# Altium footprint library Supernova Capacitors.PcbLib: 22 footprints (part 1 of 2)
Each footprint in its own frame and in the unit in brackets; x right, y up, seen from the top. Pads: shape width x height; smd on the part's side, far side on the other; paste and mask are expansions set on the pad; w line width, h text height; cw(c..) or ccw(c..) is an arc to the next point about the centre after c.
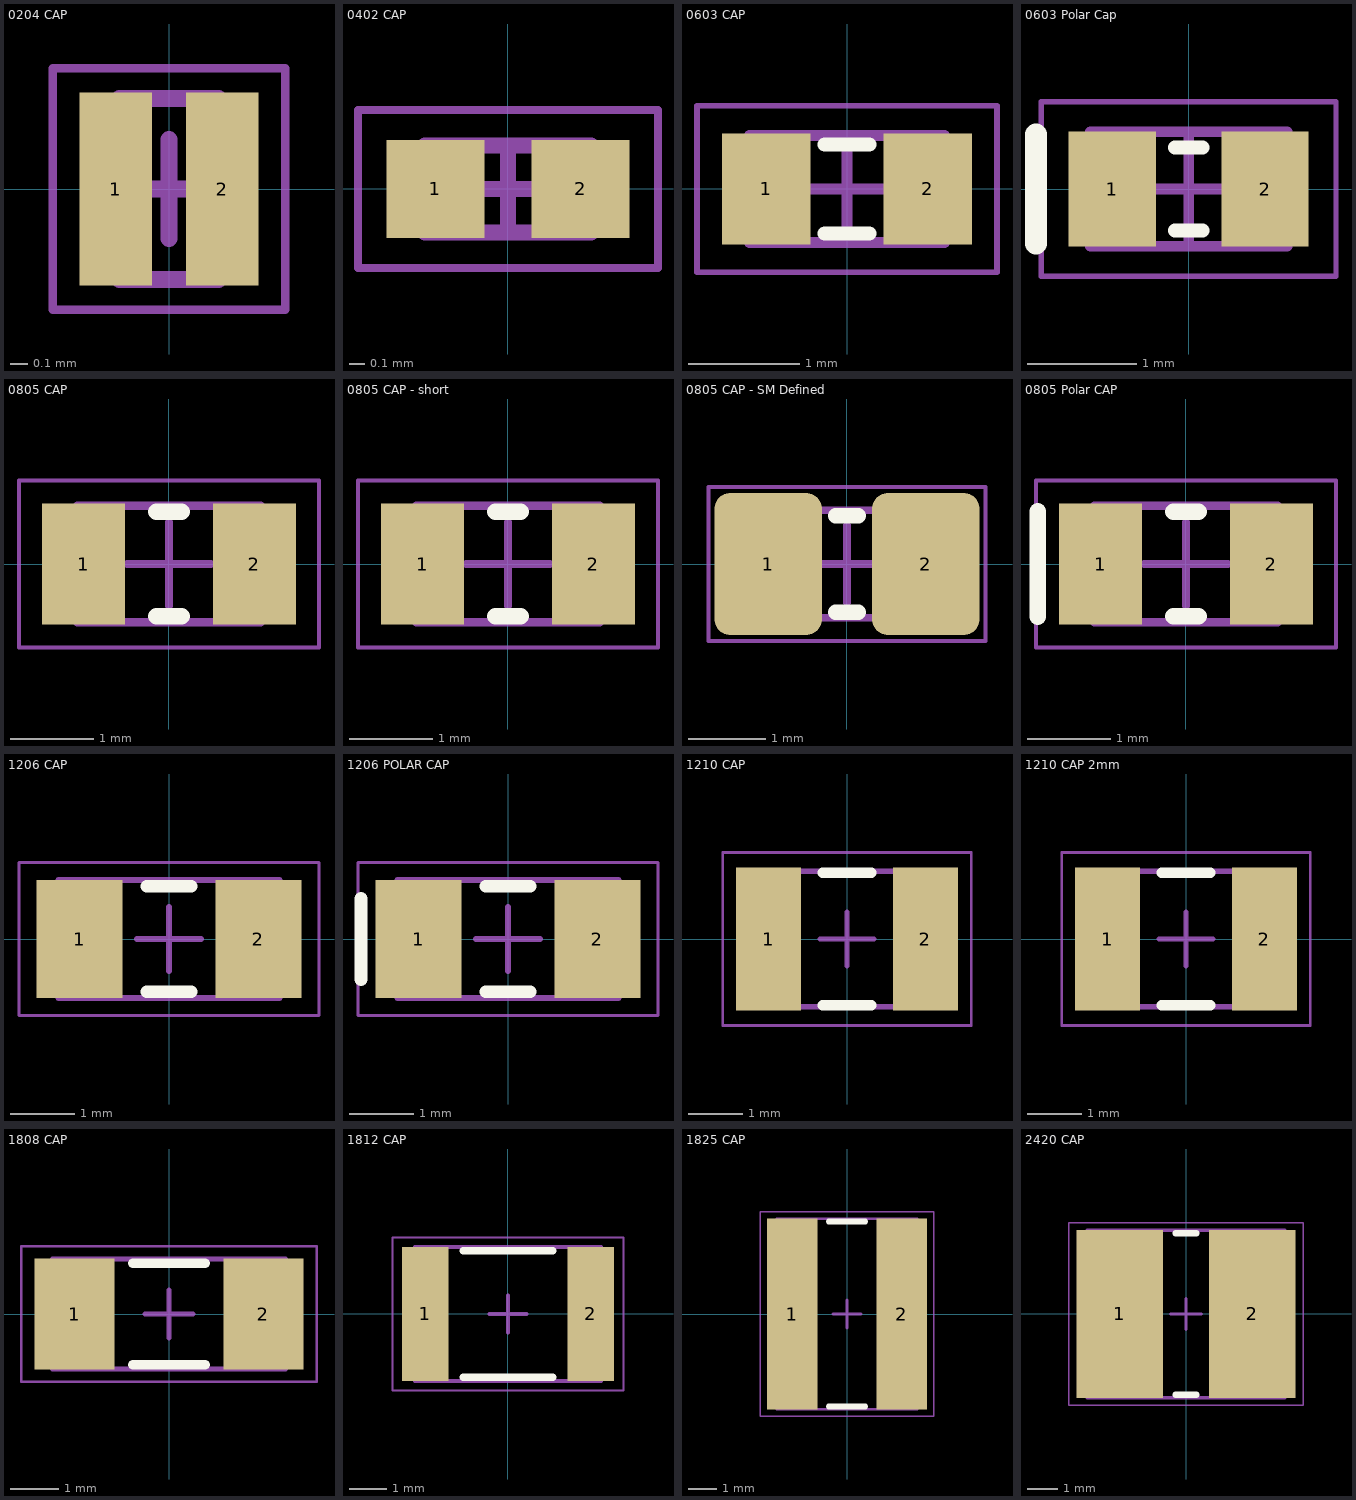
[diagram p0: the footprints below, top view; thin cyan lines are the x and y axes]

## 0204 CAP [mm] "Chip Capacitor, 2-Leads, Body 0.52x1.00mm, IPC Medium Density"
height 2.03
pads (2):
  rect 0.42x1.12 smd mask+0.013: 1(-0.31,0) 2(0.31,0)
Top 3D Body:
  lines w0.1: -0.285,-0.525 -0.285,0.525 0.285,0.525 0.285,-0.525 -0.285,-0.525
Top Courtyard (Mech15):
  lines w0.05: -0.675,-0.7 -0.675,0.7 0.675,0.7 0.675,-0.7 -0.675,-0.7
  lines w0.1: -0.285,0 0.285,0 ; 0,-0.285 0,0.285
3D body: height 0.5, standoff 0, extent -0.185,-0.525 0.185,0.525
3D body: height 0.5, standoff 0, extent -0.285,-0.525 -0.185,0.525
3D body: height 0.5, standoff 0, extent 0.185,-0.525 0.285,0.525

## 0402 CAP [mm] "Chip Capacitor, 2-Leads, Body 1.00x0.50mm, IPC Medium Density"
height 0.55
pads (2):
  rect 0.62x0.62 smd mask+0.051: 1(-0.46,0) 2(0.46,0)
Top 3D Body:
  lines w0.1: -0.525,-0.275 -0.525,0.275 0.525,0.275 0.525,-0.275 -0.525,-0.275
Top Courtyard (Mech15):
  lines w0.05: -0.95,-0.5 -0.95,0.5 0.95,0.5 0.95,-0.5 -0.95,-0.5
  lines w0.1: -0.275,0 0.275,0 ; 0,-0.275 0,0.275
3D body: height 0.55, standoff 0, extent -0.295,-0.275 0.295,0.275
3D body: height 0.55, standoff 0, extent -0.525,-0.275 -0.295,0.275
3D body: height 0.55, standoff 0, extent 0.295,-0.275 0.525,0.275

## 0603 CAP [mm] "Chip Capacitor, 2-Leads, Body 1.60x0.81mm, IPC Medium Density"
height 0.9
pads (2):
  rect 0.798x1 smd mask+0.051: 1(-0.726,0) 2(0.726,0)
Top Overlay:
  lines w0.127: -0.2,-0.4 0.2,-0.4 ; -0.2,0.4 0.2,0.4
Top 3D Body:
  lines w0.1: -0.875,-0.48 0.875,-0.48 0.875,0.48 -0.875,0.48 -0.875,-0.48
Top Courtyard (Mech15):
  lines w0.05: -1.35,-0.75 1.35,-0.75 1.35,0.75 -1.35,0.75 -1.35,-0.75
  lines w0.1: -0.48,0 0.48,0 ; 0,-0.48 0,0.48
3D body: height 0.9, standoff 0, extent 0.525,-0.48 0.875,0.48
3D body: height 0.9, standoff 0, extent -0.875,-0.48 -0.525,0.48
3D body: height 0.9, standoff 0, extent -0.525,-0.48 0.525,0.48

## 0603 Polar Cap [mm] "Chip Capacitor, 2-Leads, Body 1.60x0.85mm, IPC Medium Density"
height 0.9
pads (2):
  rect 0.8x1.05 smd: 1(-0.7,0) 2(0.7,0)
Top Overlay:
  lines w0.127: -0.127,-0.381 0.127,-0.381 ; -0.127,0.381 0.127,0.381
  lines w0.2: -1.4,-0.5 -1.4,0.5
Top 3D Body:
  lines w0.1: -0.9,-0.525 0.9,-0.525 0.9,0.525 -0.9,0.525 -0.9,-0.525
Top Courtyard (Mech15):
  lines w0.05: -1.35,-0.8 1.35,-0.8 1.35,0.8 -1.35,0.8 -1.35,-0.8
  lines w0.1: -0.5,0 0.5,0 ; 0,-0.5 0,0.5
3D body: height 0.9, standoff 0, extent -0.5,-0.525 -0.3,0.525
3D body: height 0.9, standoff 0, extent -0.3,-0.525 0.5,0.525
3D body: height 0.9, standoff 0, extent 0.5,-0.525 0.9,0.525
3D body: height 0.9, standoff 0, extent -0.9,-0.525 -0.5,0.525

## 0805 CAP [mm] "Chip Capacitor, 2-Leads, Body 2.05x1.25mm, IPC Medium Density"
height 1
pads (2):
  rect 1x1.45 smd: 1(-1.025,0) 2(1.025,0)
Top Overlay:
  lines w0.2: -0.15,-0.625 0.15,-0.625 ; -0.15,0.625 0.15,0.625
Top 3D Body:
  lines w0.1: -1.1,-0.7 -1.1,0.7 1.1,0.7 1.1,-0.7 -1.1,-0.7
Top Courtyard (Mech15):
  lines w0.05: -1.8,-1 -1.8,1 1.8,1 1.8,-1 -1.8,-1
  lines w0.1: -0.5,0 0.5,0 ; 0,-0.5 0,0.5
3D body: height 1.4, standoff 0, extent -0.75,-0.7 0.75,0.7
3D body: height 1.4, standoff 0, extent -1.1,-0.7 -0.75,0.7
3D body: height 1.4, standoff 0, extent 0.75,-0.7 1.1,0.7

## 0805 CAP - short [mm] "Chip Capacitor, 2-Leads, Body 2.05x1.25mm, IPC Medium Density"
height 1
pads (2):
  rect 1x1.45 smd: 1(-1.025,0) 2(1.025,0)
Top Overlay:
  lines w0.2: -0.15,-0.625 0.15,-0.625 ; -0.15,0.625 0.15,0.625
Top 3D Body:
  lines w0.1: -1.1,-0.7 -1.1,0.7 1.1,0.7 1.1,-0.7 -1.1,-0.7
Top Courtyard (Mech15):
  lines w0.05: -1.8,-1 -1.8,1 1.8,1 1.8,-1 -1.8,-1
  lines w0.1: -0.5,0 0.5,0 ; 0,-0.5 0,0.5
3D body: height 0.5, standoff 0, extent -0.75,-0.7 0.75,0.7
3D body: height 0.5, standoff 0, extent -1.1,-0.7 -0.75,0.7
3D body: height 0.5, standoff 0, extent 0.75,-0.7 1.1,0.7

## 0805 CAP - SM Defined [mm] "Chip Capacitor, 2-Leads, Body 2.05x1.25mm, IPC Medium Density"
height 1
pads (2):
  rrect30% 1.4x1.85 smd paste-0.2 mask-0.2: 1(-1.025,0) 2(1.025,0)
Top Overlay:
  lines w0.2: -0.15,-0.625 0.15,-0.625 ; -0.15,0.625 0.15,0.625
Top 3D Body:
  lines w0.1: -1.1,-0.7 -1.1,0.7 1.1,0.7 1.1,-0.7 -1.1,-0.7
Top Courtyard (Mech15):
  lines w0.05: -1.8,-1 -1.8,1 1.8,1 1.8,-1 -1.8,-1
  lines w0.1: -0.5,0 0.5,0 ; 0,-0.5 0,0.5
3D body: height 1.4, standoff 0, extent -0.75,-0.7 0.75,0.7
3D body: height 1.4, standoff 0, extent -1.1,-0.7 -0.75,0.7
3D body: height 1.4, standoff 0, extent 0.75,-0.7 1.1,0.7

## 0805 Polar CAP [mm] "Chip Capacitor, 2-Leads, Body 2.05x1.25mm, IPC Medium Density"
height 1
pads (2):
  rect 1x1.45 smd: 1(-1.025,0) 2(1.025,0)
Top Overlay:
  lines w0.2: -1.778,-0.635 -1.778,0.635 ; -0.15,-0.625 0.15,-0.625 ; -0.15,0.625 0.15,0.625
Top 3D Body:
  lines w0.1: -1.1,-0.7 -1.1,0.7 1.1,0.7 1.1,-0.7 -1.1,-0.7
Top Courtyard (Mech15):
  lines w0.05: -1.8,-1 -1.8,1 1.8,1 1.8,-1 -1.8,-1
  lines w0.1: -0.5,0 0.5,0 ; 0,-0.5 0,0.5
3D body: height 1, standoff 0, extent -0.75,-0.7 -0.508,0.7
3D body: height 1, standoff 0, extent -0.508,-0.7 0.75,0.7
3D body: height 1, standoff 0, extent -1.1,-0.7 -0.75,0.7
3D body: height 1, standoff 0, extent 0.75,-0.7 1.1,0.7

## 1206 CAP [mm] "Chip Resistor, 2-Leads, Body 3.20x1.60mm, IPC Medium Density"
height 0.9
pads (2):
  rect 1.35x1.85 smd: 1(-1.4,0) 2(1.4,0)
Top Overlay:
  lines w0.2: -0.35,-0.825 0.35,-0.825 ; -0.35,0.825 0.35,0.825
Top 3D Body:
  lines w0.1: -1.725,-0.925 -1.725,0.925 1.725,0.925 1.725,-0.925 -1.725,-0.925
Top Courtyard (Mech15):
  lines w0.05: -2.35,-1.2 -2.35,1.2 2.35,1.2 2.35,-1.2 -2.35,-1.2
  lines w0.1: -0.5,0 0.5,0 ; 0,-0.5 0,0.5
3D body: height 1.5, standoff 0, extent -1.225,-0.925 1.225,0.925
3D body: height 1.5, standoff 0, extent -1.725,-0.925 -1.225,0.925
3D body: height 1.5, standoff 0, extent 1.225,-0.925 1.725,0.925

## 1206 POLAR CAP [mm] "Chip Resistor, 2-Leads, Body 3.20x1.60mm, IPC Medium Density"
height 0.9
pads (2):
  rect 1.35x1.85 smd: 1(-1.4,0) 2(1.4,0)
Top Overlay:
  lines w0.2: -2.303,-0.635 -2.303,0.635 ; -0.35,-0.825 0.35,-0.825 ; -0.35,0.825 0.35,0.825
Top 3D Body:
  lines w0.1: -1.725,-0.925 -1.725,0.925 1.725,0.925 1.725,-0.925 -1.725,-0.925
Top Courtyard (Mech15):
  lines w0.05: -2.35,-1.2 -2.35,1.2 2.35,1.2 2.35,-1.2 -2.35,-1.2
  lines w0.1: -0.5,0 0.5,0 ; 0,-0.5 0,0.5
3D body: height 0.7, standoff 0, extent -1.725,-0.75 -1.575,0.75
3D body: height 1.7, standoff 0, extent -1.25,-0.925 -0.75,0.95
3D body: height 1.8, standoff 0, extent -1.575,-0.925 -1.25,0.925
3D body: height 1.8, standoff 0, extent -0.75,-0.925 1.575,0.925
3D body: height 0.7, standoff 0, extent 1.575,-0.75 1.725,0.75
3D body: height 1.8, standoff 1.7, extent -1.25,-0.925 -0.75,0.925

## 1210 CAP [mm] "Chip Capacitor, 2-Leads, Body 3.20x2.50mm, IPC Medium Density"
height 2.5
pads (2):
  rect 1.2x2.65 smd: 1(-1.45,0) 2(1.45,0)
Top Overlay:
  lines w0.2: -0.45,-1.225 0.45,-1.225 ; -0.45,1.225 0.45,1.225
Top 3D Body:
  lines w0.1: -1.6,-1.25 1.6,-1.25 1.6,1.25 -1.6,1.25 -1.6,-1.25
Top Courtyard (Mech15):
  lines w0.05: -2.3,-1.6 2.3,-1.6 2.3,1.6 -2.3,1.6 -2.3,-1.6
  lines w0.1: -0.5,0 0.5,0 ; 0,-0.5 0,0.5
3D body: height 2.5, standoff 0, extent 1.1,-1.25 1.6,1.25
3D body: height 2.5, standoff 0, extent -1.6,-1.25 -1.1,1.25
3D body: height 2.5, standoff 0, extent -1.1,-1.25 1.1,1.25

## 1210 CAP 2mm [mm] "Chip Capacitor, 2-Leads, Body 3.20x2.50mm, IPC Medium Density"
height 2.5
pads (2):
  rect 1.2x2.65 smd: 1(-1.45,0) 2(1.45,0)
Top Overlay:
  lines w0.2: -0.45,-1.225 0.45,-1.225 ; -0.45,1.225 0.45,1.225
Top 3D Body:
  lines w0.1: -1.6,-1.25 1.6,-1.25 1.6,1.25 -1.6,1.25 -1.6,-1.25
Top Courtyard (Mech15):
  lines w0.05: -2.3,-1.6 2.3,-1.6 2.3,1.6 -2.3,1.6 -2.3,-1.6
  lines w0.1: -0.5,0 0.5,0 ; 0,-0.5 0,0.5
3D body: height 2, standoff 0, extent 1.1,-1.25 1.6,1.25
3D body: height 2, standoff 0, extent -1.6,-1.25 -1.1,1.25
3D body: height 2, standoff 0, extent -1.1,-1.25 1.1,1.25

## 1808 CAP [mm] "Chip Capacitor, 2-Leads, Body 4.57x2.03mm, IPC Medium Density"
height 2.03
pads (2):
  rect 1.65x2.3 smd paste-0.15: 1(-1.95,0) 2(1.95,0)
Top Overlay:
  lines w0.2: -0.75,-1.05 0.75,-1.05 ; -0.75,1.05 0.75,1.05
Top 3D Body:
  lines w0.1: -2.41,-1.14 -2.41,1.14 2.41,1.14 2.41,-1.14 -2.41,-1.14
Top Courtyard (Mech15):
  lines w0.05: -3.05,-1.4 -3.05,1.4 3.05,1.4 3.05,-1.4 -3.05,-1.4
  lines w0.1: -0.5,0 0.5,0 ; 0,-0.5 0,0.5
3D body: height 2.03, standoff 0, extent -1.77,-1.14 1.77,1.14
3D body: height 2.03, standoff 0, extent -2.41,-1.14 -1.77,1.14
3D body: height 2.03, standoff 0, extent 1.77,-1.14 2.41,1.14

## 1812 CAP [mm] "Chip Capacitor, 2-Leads, Body 4.50x3.20mm, IPC Medium Density"
height 2.8
pads (2):
  rect 1.25x3.6 smd paste-2: 1(-2.225,0) 2(2.225,0)
Top Overlay:
  lines w0.2: -1.2,-1.7 1.2,-1.7 ; -1.2,1.7 1.2,1.7
Top Paste:
  region: 2.725,1.7 1.725,1.7 1.725,0.1 2.725,0.1
  region: 2.725,-0.1 1.725,-0.1 1.725,-1.7 2.725,-1.7
  rectangle: -2.725,0.1 -1.725,1.7
  rectangle: -2.725,-1.7 -1.725,-0.1
Top 3D Body:
  lines w0.1: -2.5,-1.8 2.5,-1.8 2.5,1.8 -2.5,1.8 -2.5,-1.8
Top Courtyard (Mech15):
  lines w0.05: -3.1,-2.05 3.1,-2.05 3.1,2.05 -3.1,2.05 -3.1,-2.05
  lines w0.1: -0.5,0 0.5,0 ; 0,-0.5 0,0.5
3D body: height 2.8, standoff 0, extent 2.2,-1.8 2.5,1.8
3D body: height 2.8, standoff 0, extent -2.5,-1.8 -2.2,1.8
3D body: height 2.8, standoff 0, extent -2.2,-1.8 2.2,1.8

## 1825 CAP [mm] "Chip Capacitor, 2-Leads, Body 4.60x6.40mm, IPC Medium Density"
height 1.8
pads (2):
  rect 1.8x6.8 smd paste-2: 1(-1.95,0) 2(1.95,0)
Top Overlay:
  lines w0.2: -0.65,-3.3 0.65,-3.3 ; -0.65,3.3 0.65,3.3
Top Paste:
  region: 2.8,-1.275 1.1,-1.275 1.1,-2.975 2.8,-2.975
  region: 2.8,2.975 1.1,2.975 1.1,1.275 2.8,1.275
  region: 2.8,0.85 1.1,0.85 1.1,-0.85 2.8,-0.85
  rectangle: -2.8,-2.975 -1.1,-1.275
  rectangle: -2.8,1.275 -1.1,2.975
  rectangle: -2.8,-0.85 -1.1,0.85
Top 3D Body:
  lines w0.1: -2.5,-3.4 2.5,-3.4 2.5,3.4 -2.5,3.4 -2.5,-3.4
Top Courtyard (Mech15):
  lines w0.05: -3.1,-3.65 3.1,-3.65 3.1,3.65 -3.1,3.65 -3.1,-3.65
  lines w0.1: -0.5,0 0.5,0 ; 0,-0.5 0,0.5
3D body: height 1.8, standoff 0, extent 1.8,-3.4 2.5,3.4
3D body: height 1.8, standoff 0, extent -2.5,-3.4 -1.8,3.4
3D body: height 1.8, standoff 0, extent -1.8,-3.4 1.8,3.4

## 2420 CAP [mm] "Chip Capacitor, 2-Leads, Body 6.00x5.00mm, IPC Medium Density"
height 2.8
pads (2):
  rect 2.85x5.5 smd paste-2: 1(-2.175,0) 2(2.175,0)
Top Overlay:
  lines w0.2: -0.35,-2.65 0.35,-2.65 ; -0.35,2.65 0.35,2.65
Top Paste:
  rectangle: -3.375,0.1 -0.975,2.5
  rectangle: -3.375,-2.5 -0.975,-0.1
  region: 3.375,-0.1 0.975,-0.1 0.975,-2.5 3.375,-2.5
  region: 3.375,2.5 0.975,2.5 0.975,0.1 3.375,0.1
Top 3D Body:
  lines w0.1: -3.25,-2.75 3.25,-2.75 3.25,2.75 -3.25,2.75 -3.25,-2.75
Top Courtyard (Mech15):
  lines w0.05: -3.85,-3 3.85,-3 3.85,3 -3.85,3 -3.85,-3
  lines w0.1: -0.5,0 0.5,0 ; 0,-0.5 0,0.5
3D body "KRM55TR72E225MH01K.STEP": height 5, standoff 0, extent -3.05,-2.65 3.05,2.65